# Altium footprint library SOT508P985X260-4N.PcbLib: 1 footprints
Each footprint in its own frame and in the unit in brackets; x right, y up, seen from the top. Pads: shape width x height; smd on the part's side, far side on the other; paste and mask are expansions set on the pad; w line width, h text height; cw(c..) or ccw(c..) is an arc to the next point about the centre after c.
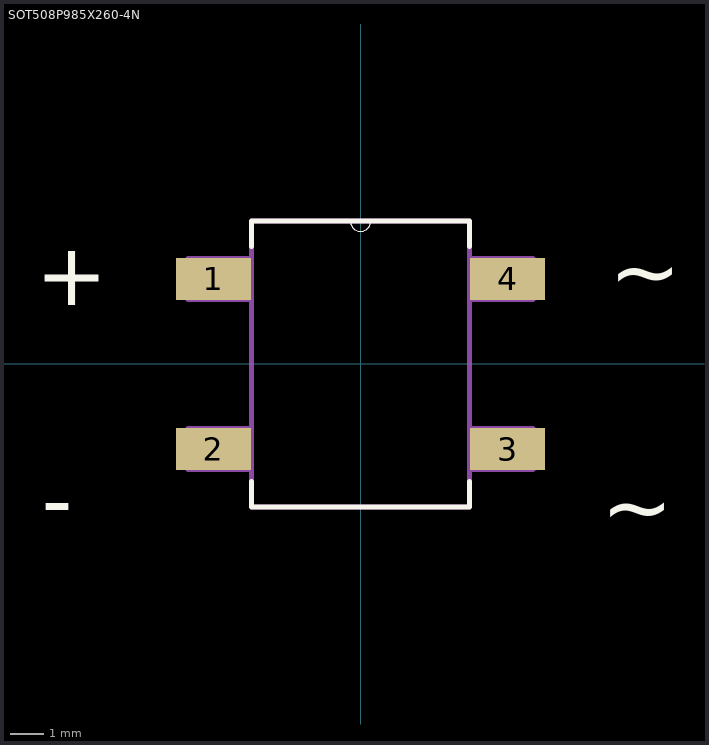
[diagram p0: the footprint, top view; thin cyan lines are the x and y axes]

## SOT508P985X260-4N [mil]
pads (4):
  rect 88x49 smd: 1(-173,100) 2(-173,-100) 3(173,-100) 4(173,100)
Top Overlay:
  lines w0: -12,168 ccw(c0,168) 12,168
  lines w6: -128,-138 -128,-168 128,-168 128,-138 ; -128,138 -128,168 -12,168 12,168 128,168 128,138
  text "~" at 283.33,-203.57 h73.82
  text "~" at 292.69,73.2 h73.82
  text "-" at -374.95,-195.33 h73.82
  text "+" at -381.87,68.93 h73.82
Mechanical 1:
  lines w0: -12,168 ccw(c0,168) 12,168
  lines w6: -203,-124 -203,-76 -128,-76 -128,-124 -203,-124 ; -203,76 -203,124 -128,124 -128,76 -203,76 ; -128,-168 128,-168 128,168 12,168 -12,168 -128,168 -128,-168 ; 128,-124 128,-76 203,-76 203,-124 128,-124 ; 128,76 128,124 203,124 203,76 128,76
  text "~" at 281.07,-203.32 h73.82
  text "~" at 292.75,75.94 h73.82
  text "-" at -380.53,-199.44 h73.82
  text "+" at -377.66,65.43 h73.82